# Altium schematic symbol library MICROCHIP_MTCH102-I.SchLib: 1 symbol
Pins are listed as number, name and electrical type; pins without a type are passive.

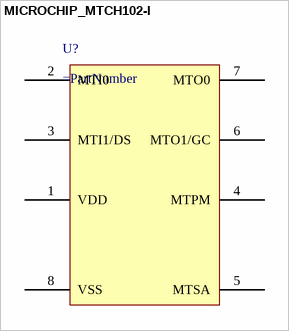
[diagram p0: symbol MICROCHIP_MTCH102-I]

## MICROCHIP_MTCH102-I
designator U?
pins: 1 VDD, 2 MTI0, 3 MTI1/DS, 4 MTPM, 5 MTSA, 6 MTO1/GC, 7 MTO0, 8 VSS